# Altium footprint library MICRO_USB.PcbLib: 1 footprints
Each footprint in its own frame and in the unit in brackets; x right, y up, seen from the top. Pads: shape width x height; smd on the part's side, far side on the other; paste and mask are expansions set on the pad; w line width, h text height; cw(c..) or ccw(c..) is an arc to the next point about the centre after c.
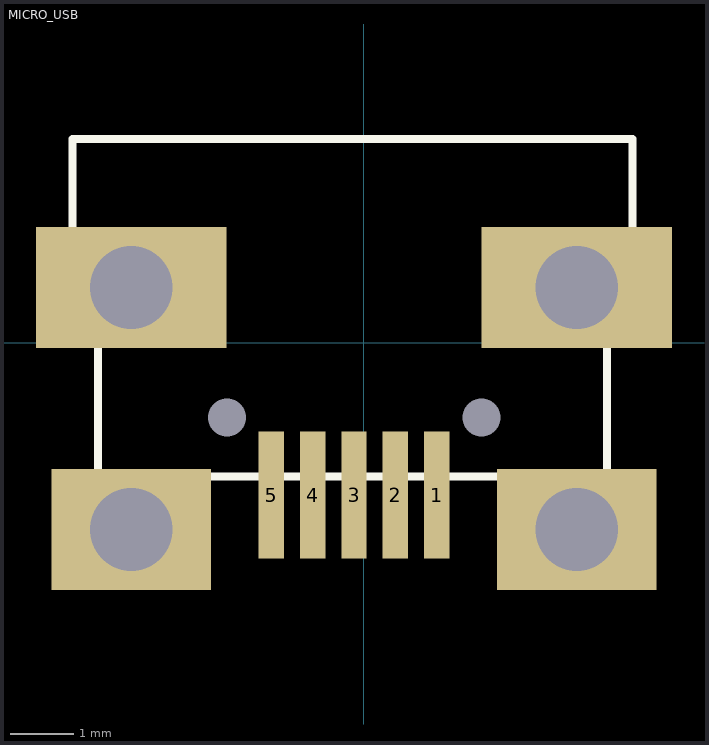
[diagram p0: the footprint, top view; thin cyan lines are the x and y axes]

## MICRO_USB [mm]
pads (11):
  rect 0.4x2 smd mask+0.04: 1(1.148,-2.396) 2(0.498,-2.396) 3(-0.152,-2.396) 4(-0.802,-2.396) 5(-1.452,-2.396)
  rect 2.5x1.9 hole 1.3 mask-25.4: ""(-3.652,-2.936) ""(3.348,-2.936)
  rect 3x1.9 hole 1.3 mask-25.4: ""(-3.652,0.864) ""(3.348,0.864)
  round 0.5 hole 0.6: ""(-2.148,-1.179) ""(1.852,-1.179)
Top Overlay:
  lines w0.127: -4.578,0.199 -4.578,3.199 4.222,3.199 4.222,0.199 3.822,0.199 3.822,-2.101 1.822,-2.101 -2.178,-2.101 -4.178,-2.101 -4.178,0.199 -4.578,0.199
3D body "85870.stp": height 3.12, standoff -0.15, extent -4.113,-2.028 3.937,3.552